# Altium schematic symbol library GY-SchLib.SchLib: 17 symbols
Pins are listed as number, name and electrical type; pins without a type are passive.

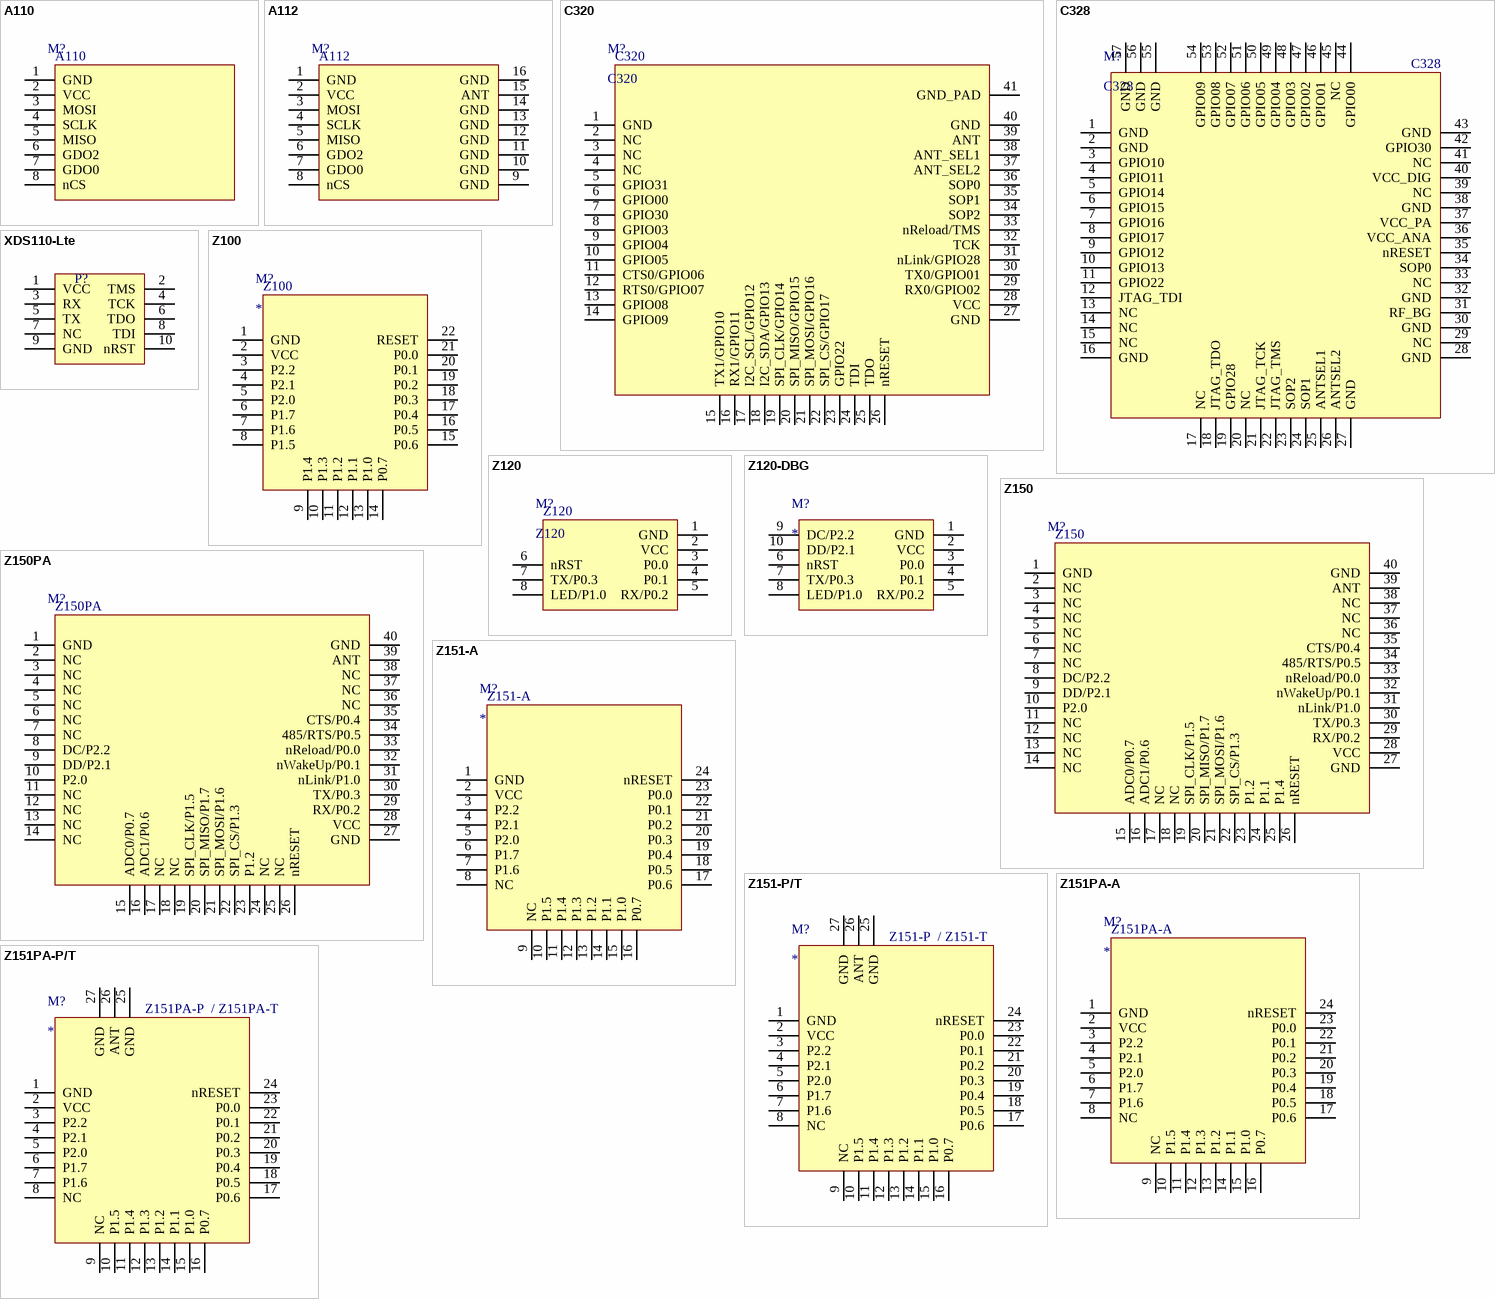
[diagram p0: symbols A110 to Z151PA-P/T]

## A110
designator M?  Part Value: A110  (hidden comment: *)
A110 Module, CC1101MOD 433/470MHz; Manufacturer: Ghostyu; Part Number: A110
footprint A110 (CC1101 Module)
pins: 1 GND, 2 VCC, 3 MOSI, 4 SCLK, 5 MISO, 6 GDO2, 7 GDO0, 8 nCS

## A112
designator M?  Part Value: A112  (hidden comment: *)
A112 Module SMD, CC1101MOD 433/470MHz; Manufacturer: Ghostyu; Part Number: A112
footprint A112
pins: 1 GND, 2 VCC, 3 MOSI, 4 SCLK, 5 MISO, 6 GDO2, 7 GDO0, 8 nCS, 9 GND, 10 GND, 11 GND, 12 GND, 13 GND, 14 GND, 15 ANT, 16 GND

## C320
designator M?
CC3200 Module; Manufacturer: Ghostyu; Part Number: C320; Part Value: C320
footprint C320
pins: 1 GND, 2 NC, 3 NC, 4 NC, 5 GPIO31, 6 GPIO00, 7 GPIO30, 8 GPIO03, 9 GPIO04, 10 GPIO05, 11 CTS0/GPIO06, 12 RTS0/GPIO07, 13 GPIO08, 14 GPIO09, 15 TX1/GPIO10, 16 RX1/GPIO11, 17 I2C_SCL/GPIO12, 18 I2C_SDA/GPIO13, 19 SPI_CLK/GPIO14, 20 SPI_MISO/GPIO15, 21 SPI_MOSI/GPIO16, 22 SPI_CS/GPIO17, 23 GPIO22, 24 TDI, 25 TDO, 26 nRESET, 27 GND, 28 VCC, 29 RX0/GPIO02, 30 TX0/GPIO01, 31 nLink/GPIO28, 32 TCK, 33 nReload/TMS, 34 SOP2, 35 SOP1, 36 SOP0, 37 ANT_SEL2, 38 ANT_SEL1, 39 ANT, 40 GND, 41 GND_PAD

## C328
designator M?
CC3200MOD; Manufacturer: Ghostyu; Part Number: C328; Part Value: C328
footprint C328
pins: 1 GND, 2 GND, 3 GPIO10, 4 GPIO11, 5 GPIO14, 6 GPIO15, 7 GPIO16, 8 GPIO17, 9 GPIO12, 10 GPIO13, 11 GPIO22, 12 JTAG_TDI, 13 NC, 14 NC, 15 NC, 16 GND, 17 NC, 18 JTAG_TDO, 19 GPIO28, 20 NC, 21 JTAG_TCK, 22 JTAG_TMS, 23 SOP2, 24 SOP1, 25 ANTSEL1, 26 ANTSEL2, 27 GND, 28 GND, 29 NC, 30 GND, 31 RF_BG, 32 GND, 33 NC, 34 SOP0, 35 nRESET, 36 VCC_ANA, 37 VCC_PA, 38 GND, 39 NC, 40 VCC_DIG, 41 NC, 42 GPIO30, 43 GND, 44 GPIO00, 45 NC, 46 GPIO01, 47 GPIO02, 48 GPIO03, 49 GPIO04, 50 GPIO05, 51 GPIO06, 52 GPIO07, 53 GPIO08, 54 GPIO09, 55 GND, 56 GND, 57 GND

## XDS110-Lte
designator P?
XDS110-Lite Target Interface; Part Value: XDS110 Interface
footprint XDS110-Lite (Connector; Header; 5x2 Position)
pins: 1 VCC, 2 TMS, 3 RX, 4 TCK, 5 TX, 6 TDO, 7 NC, 8 TDI, 9 GND, 10 nRST

## Z100
designator M?  Part Value: Z100
Ghostyu Z100 Module; Manufacturer: Ghostyu; Part Number: Z100
footprint Z100
pins: 1 GND, 2 VCC, 3 P2.2, 4 P2.1, 5 P2.0, 6 P1.7, 7 P1.6, 8 P1.5, 9 P1.4, 10 P1.3, 11 P1.2, 12 P1.1, 13 P1.0, 14 P0.7, 15 P0.6, 16 P0.5, 17 P0.4, 18 P0.3, 19 P0.2, 20 P0.1, 21 P0.0, 22 RESET

## Z120
designator M?
Zigbee Module With PA; Manufacturer: Ghostyu; Part Number: Z120; Part Value: Z120
footprint Z120 (Z120 Module Interface)
pins: 1 GND, 2 VCC, 3 P0.0, 4 P0.1, 5 RX/P0.2, 6 nRST, 7 TX/P0.3, 8 LED/P1.0

## Z120-DBG
designator M?
Zigbee Module With PA; Manufacturer: Ghostyu; Part Number: Z120
footprint Z120-DBG (Z120 Module Interface)
pins: 1 GND, 2 VCC, 3 P0.0, 4 P0.1, 5 RX/P0.2, 6 nRST, 7 TX/P0.3, 8 LED/P1.0, 9 DC/P2.2, 10 DD/P2.1

## Z150
designator M?
CC2530 Module; Manufacturer: Ghostyu; Part Number: Z150; Part Value: Z150
pins: 1 GND, 2 NC, 3 NC, 4 NC, 5 NC, 6 NC, 7 NC, 8 DC/P2.2, 9 DD/P2.1, 10 P2.0, 11 NC, 12 NC, 13 NC, 14 NC, 15 ADC0/P0.7, 16 ADC1/P0.6, 17 NC, 18 NC, 19 SPI_CLK/P1.5, 20 SPI_MISO/P1.7, 21 SPI_MOSI/P1.6, 22 SPI_CS/P1.3, 23 P1.2, 24 P1.1, 25 P1.4, 26 nRESET, 27 GND, 28 VCC, 29 RX/P0.2, 30 TX/P0.3, 31 nLink/P1.0, 32 nWakeUp/P0.1, 33 nReload/P0.0, 34 485/RTS/P0.5, 35 CTS/P0.4, 36 NC, 37 NC, 38 NC, 39 ANT, 40 GND

## Z150PA
designator M?
CC2530 Module; Manufacturer: Ghostyu; Part Number: Z150PA; Part Value: Z150PA
pins: 1 GND, 2 NC, 3 NC, 4 NC, 5 NC, 6 NC, 7 NC, 8 DC/P2.2, 9 DD/P2.1, 10 P2.0, 11 NC, 12 NC, 13 NC, 14 NC, 15 ADC0/P0.7, 16 ADC1/P0.6, 17 NC, 18 NC, 19 SPI_CLK/P1.5, 20 SPI_MISO/P1.7, 21 SPI_MOSI/P1.6, 22 SPI_CS/P1.3, 23 P1.2, 24 NC, 25 NC, 26 nRESET, 27 GND, 28 VCC, 29 RX/P0.2, 30 TX/P0.3, 31 nLink/P1.0, 32 nWakeUp/P0.1, 33 nReload/P0.0, 34 485/RTS/P0.5, 35 CTS/P0.4, 36 NC, 37 NC, 38 NC, 39 ANT, 40 GND

## Z151-A
designator M?  Part Value: Z151-A
Z151板载天线版本：Z151-A; Manufacturer: Ghostyu; Part Number: Z151-A
footprint Z151-A (适用型号：Z151-A; BLE151-A)
pins: 1 GND, 2 VCC, 3 P2.2, 4 P2.1, 5 P2.0, 6 P1.7, 7 P1.6, 8 NC, 9 NC, 10 P1.5, 11 P1.4, 12 P1.3, 13 P1.2, 14 P1.1, 15 P1.0, 16 P0.7, 17 P0.6, 18 P0.5, 19 P0.4, 20 P0.3, 21 P0.2, 22 P0.1, 23 P0.0, 24 nRESET

## Z151-P/T
designator M?  Part Value: Z151-P  / Z151-T
Z151外置天线版本：Z151-P或Z151-T; Manufacturer: Ghostyu
footprint Z151-P/T (适用型号：Z151-P/T; BLE151-P/T)
pins: 1 GND, 2 VCC, 3 P2.2, 4 P2.1, 5 P2.0, 6 P1.7, 7 P1.6, 8 NC, 9 NC, 10 P1.5, 11 P1.4, 12 P1.3, 13 P1.2, 14 P1.1, 15 P1.0, 16 P0.7, 17 P0.6, 18 P0.5, 19 P0.4, 20 P0.3, 21 P0.2, 22 P0.1, 23 P0.0, 24 nRESET, 25 GND, 26 ANT, 27 GND

## Z151PA-A
designator M?  Part Value: Z151PA-A
Z151PA板载天线版本：Z151PA-A; Manufacturer: Ghostyu; Part Number: Z151PA-A
footprint Z151-A (适用型号：Z151-A,  Z151PA-A,  BLE151-A,  BLE151PA-A)
pins: 1 GND, 2 VCC, 3 P2.2, 4 P2.1, 5 P2.0, 6 P1.7, 7 P1.6, 8 NC, 9 NC, 10 P1.5, 11 P1.4, 12 P1.3, 13 P1.2, 14 P1.1, 15 P1.0, 16 P0.7, 17 P0.6, 18 P0.5, 19 P0.4, 20 P0.3, 21 P0.2, 22 P0.1, 23 P0.0, 24 nRESET

## Z151PA-P/T
designator M?  Part Value: Z151PA-P  / Z151PA-T
Z151PA外置天线版本：Z151PA-P或Z151PA-T; Manufacturer: Ghostyu
footprint Z151-P/T (适用型号：Z151-P/T,  Z151PA-P/T,  BLE151-P/T,  BLE151PA-P/T)
pins: 1 GND, 2 VCC, 3 P2.2, 4 P2.1, 5 P2.0, 6 P1.7, 7 P1.6, 8 NC, 9 NC, 10 P1.5, 11 P1.4, 12 P1.3, 13 P1.2, 14 P1.1, 15 P1.0, 16 P0.7, 17 P0.6, 18 P0.5, 19 P0.4, 20 P0.3, 21 P0.2, 22 P0.1, 23 P0.0, 24 nRESET, 25 GND, 26 ANT, 27 GND

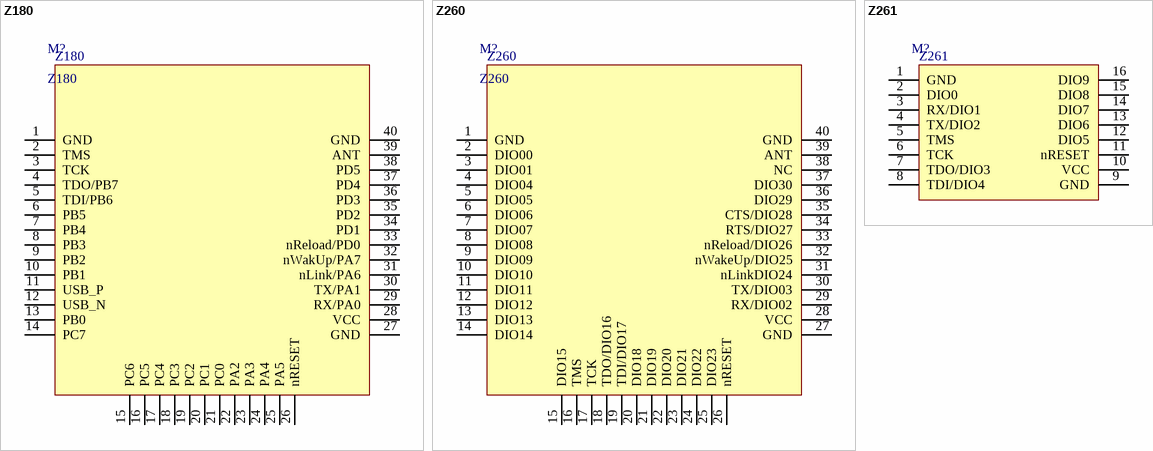
[diagram p1: symbols Z180 to Z261]

## Z180
designator M?
CC2630 Module; Manufacturer: Ghostyu; Part Number: Z180; Part Value: Z180
footprint Z260
pins: 1 GND, 2 TMS, 3 TCK, 4 TDO/PB7, 5 TDI/PB6, 6 PB5, 7 PB4, 8 PB3, 9 PB2, 10 PB1, 11 USB_P, 12 USB_N, 13 PB0, 14 PC7, 15 PC6, 16 PC5, 17 PC4, 18 PC3, 19 PC2, 20 PC1, 21 PC0, 22 PA2, 23 PA3, 24 PA4, 25 PA5, 26 nRESET, 27 GND, 28 VCC, 29 RX/PA0, 30 TX/PA1, 31 nLink/PA6, 32 nWakUp/PA7, 33 nReload/PD0, 34 PD1, 35 PD2, 36 PD3, 37 PD4, 38 PD5, 39 ANT, 40 GND

## Z260
designator M?
CC2630 Module; Manufacturer: Ghostyu; Part Number: Z260; Part Value: Z260
footprint Z260
pins: 1 GND, 2 DIO00, 3 DIO01, 4 DIO04, 5 DIO05, 6 DIO06, 7 DIO07, 8 DIO08, 9 DIO09, 10 DIO10, 11 DIO11, 12 DIO12, 13 DIO13, 14 DIO14, 15 DIO15, 16 TMS, 17 TCK, 18 TDO/DIO16, 19 TDI/DIO17, 20 DIO18, 21 DIO19, 22 DIO20, 23 DIO21, 24 DIO22, 25 DIO23, 26 nRESET, 27 GND, 28 VCC, 29 RX/DIO02, 30 TX/DIO03, 31 nLinkDIO24, 32 nWakeUp/DIO25, 33 nReload/DIO26, 34 RTS/DIO27, 35 CTS/DIO28, 36 DIO29, 37 DIO30, 38 NC, 39 ANT, 40 GND

## Z261
designator M?  Part Value: Z261  (hidden comment: *)
Z261/BLE261; Manufacturer: Ghostyu; Part Number: Z261
footprint Z261
pins: 1 GND, 2 DIO0, 3 RX/DIO1, 4 TX/DIO2, 5 TMS, 6 TCK, 7 TDO/DIO3, 8 TDI/DIO4, 9 GND, 10 VCC, 11 nRESET, 12 DIO5, 13 DIO6, 14 DIO7, 15 DIO8, 16 DIO9